# Altium schematic symbol library linear regulators.SchLib: 1 symbol
Pins are listed as number, name and electrical type; pins without a type are passive.

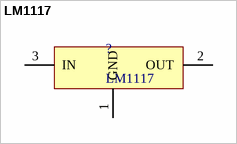
[diagram p0: symbol LM1117]

## LM1117
designator ?
SOT-223
footprint SOT-223 (LM1117)
pins: 1 GND, 2 OUT, 3 IN